# Altium footprint library MXC6655XA.PcbLib: 3 footprints
Each footprint in its own frame and in the unit in brackets; x right, y up, seen from the top. Pads: shape width x height; smd on the part's side, far side on the other; paste and mask are expansions set on the pad; w line width, h text height; cw(c..) or ccw(c..) is an arc to the next point about the centre after c.
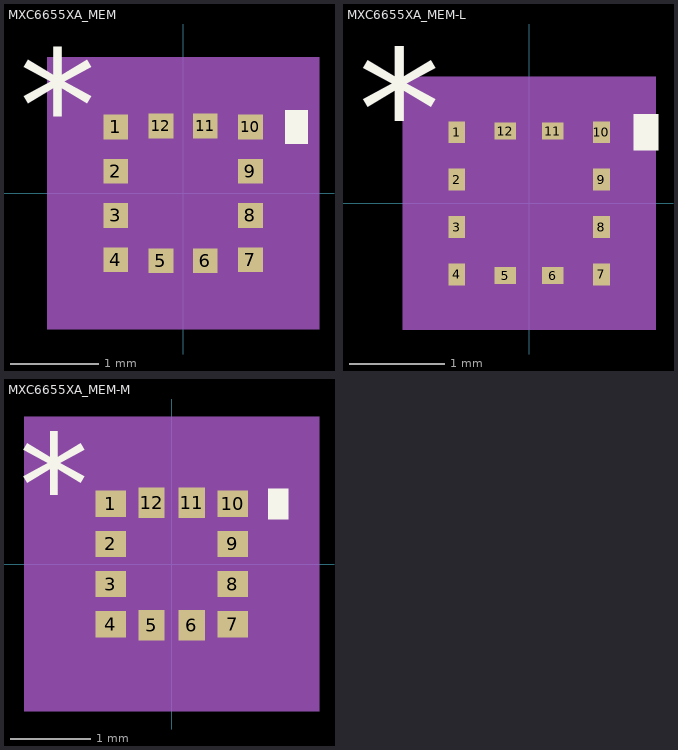
[diagram p0: the footprints below, top view; thin cyan lines are the x and y axes]

## MXC6655XA_MEM [mil]
pads (12):
  rect 11x11 smd paste+0 mask+0: 1(-30,29.53) 2(-30,9.84) 3(-30,-9.84) 4(-30,-29.53) 5(-9.84,-30) 6(9.84,-30) 7(30,-29.53) 8(30,-9.84) 9(30,9.84) 10(30,29.53) 11(9.84,30) 12(-9.84,30)
Top Overlay:
  region: 45.5,37.03 55.5,37.03 55.5,22.03 45.5,22.03
  text "*" at -73,14.37 h50
Mechanical 5:
  region: 60.5,-60.5 -60.5,-60.5 -60.5,60.5 60.5,60.5
Mechanical 13:
  lines w1: -39.5,-10.5 10.5,39.5 ; -39.5,-39.5 39.5,-39.5 ; -39.5,-39.5 -39.5,39.5 ; -39.5,-39.5 -39.5,-39.5 ; -39.5,39.5 39.5,39.5 ; -39.5,39.5 -39.5,39.5 ; 39.5,-39.5 39.5,-39.5 ; 39.5,-39.5 39.5,39.5 ; 39.5,39.5 39.5,39.5 ; -39.5,-35.03 -39.5,-24.03 -35.5,-24.03 -35.5,-35.03 -39.5,-35.03 ; -39.5,-15.34 -39.5,-4.34 -35.5,-4.34 -35.5,-15.34 -39.5,-15.34 ; -39.5,4.34 -39.5,15.34 -35.5,15.34 -35.5,4.34 -39.5,4.34 ; -39.5,24.03 -39.5,35.03 -35.5,35.03 -35.5,24.03 -39.5,24.03 ; -15.34,-39.5 -4.34,-39.5 -4.34,-35.5 -15.34,-35.5 -15.34,-39.5 ; -15.34,35.5 -4.34,35.5 -4.34,39.5 -15.34,39.5 -15.34,35.5 ; 4.34,-39.5 15.34,-39.5 15.34,-35.5 4.34,-35.5 4.34,-39.5 ; 4.34,35.5 15.34,35.5 15.34,39.5 4.34,39.5 4.34,35.5 ; 35.5,-35.03 39.5,-35.03 39.5,-24.03 35.5,-24.03 35.5,-35.03 ; 35.5,-15.34 39.5,-15.34 39.5,-4.34 35.5,-4.34 35.5,-15.34 ; 35.5,4.34 39.5,4.34 39.5,15.34 35.5,15.34 35.5,4.34 ; 35.5,24.03 39.5,24.03 39.5,35.03 35.5,35.03 35.5,24.03
  text "*" at -37,14.37 h50
Mechanical 15:
  region: -25.34,-49.5 -49.5,-49.5 -49.5,-45.03 -49.5,45.03 -49.5,49.5 -25.34,49.5 25.34,49.5 49.5,49.5 49.5,45.03 49.5,-45.03 49.5,-49.5 25.34,-49.5
  lines w6: -49.5,-45.03 -49.5,-49.5 -25.34,-49.5 ; -49.5,-45.03 -49.5,-45.03 ; -49.5,-45.03 -49.5,45.03 ; -49.5,45.03 -49.5,45.03 ; -49.5,45.03 -49.5,49.5 -25.34,49.5 ; -25.34,-49.5 25.34,-49.5 ; -25.34,-49.5 -25.34,-49.5 ; -25.34,49.5 -25.34,49.5 ; -25.34,49.5 25.34,49.5 ; 25.34,-49.5 49.5,-49.5 49.5,-45.03 ; 25.34,-49.5 25.34,-49.5 ; 25.34,49.5 25.34,49.5 ; 25.34,49.5 49.5,49.5 49.5,45.03 ; 49.5,-45.03 49.5,45.03 ; 49.5,-45.03 49.5,-45.03 ; 49.5,45.03 49.5,45.03
3D body "MXC6655XA_MEM.step": height 39.09, standoff 0, extent -39.49,-39.49 39.49,39.49

## MXC6655XA_MEM-L [mil]
pads (12):
  rect 7x9 smd paste+0 mask+0: 1(-30,29.53) 2(-30,9.84) 3(-30,-9.84) 4(-30,-29.53) 7(30,-29.53) 8(30,-9.84) 9(30,9.84) 10(30,29.53)
  rect 9x7 smd paste+0 mask+0: 5(-9.84,-30) 6(9.84,-30) 11(9.84,30) 12(-9.84,30)
Top Overlay:
  region: 43.5,37.03 53.5,37.03 53.5,22.03 43.5,22.03
  text "*" at -71,14.37 h50
Mechanical 5:
  region: 52.5,-52.5 -52.5,-52.5 -52.5,52.5 52.5,52.5
Mechanical 13:
  lines w1: -39.5,-10.5 10.5,39.5 ; -39.5,-39.5 39.5,-39.5 ; -39.5,-39.5 -39.5,39.5 ; -39.5,-39.5 -39.5,-39.5 ; -39.5,39.5 39.5,39.5 ; -39.5,39.5 -39.5,39.5 ; 39.5,-39.5 39.5,-39.5 ; 39.5,-39.5 39.5,39.5 ; 39.5,39.5 39.5,39.5 ; -39.5,-35.03 -39.5,-24.03 -35.5,-24.03 -35.5,-35.03 -39.5,-35.03 ; -39.5,-15.34 -39.5,-4.34 -35.5,-4.34 -35.5,-15.34 -39.5,-15.34 ; -39.5,4.34 -39.5,15.34 -35.5,15.34 -35.5,4.34 -39.5,4.34 ; -39.5,24.03 -39.5,35.03 -35.5,35.03 -35.5,24.03 -39.5,24.03 ; -15.34,-39.5 -4.34,-39.5 -4.34,-35.5 -15.34,-35.5 -15.34,-39.5 ; -15.34,35.5 -4.34,35.5 -4.34,39.5 -15.34,39.5 -15.34,35.5 ; 4.34,-39.5 15.34,-39.5 15.34,-35.5 4.34,-35.5 4.34,-39.5 ; 4.34,35.5 15.34,35.5 15.34,39.5 4.34,39.5 4.34,35.5 ; 35.5,-35.03 39.5,-35.03 39.5,-24.03 35.5,-24.03 35.5,-35.03 ; 35.5,-15.34 39.5,-15.34 39.5,-4.34 35.5,-4.34 35.5,-15.34 ; 35.5,4.34 39.5,4.34 39.5,15.34 35.5,15.34 35.5,4.34 ; 35.5,24.03 39.5,24.03 39.5,35.03 35.5,35.03 35.5,24.03
  text "*" at -39,14.37 h50
Mechanical 15:
  region: -18.34,-43.5 -43.5,-43.5 -43.5,-38.03 -43.5,38.03 -43.5,43.5 -18.34,43.5 18.34,43.5 43.5,43.5 43.5,38.03 43.5,-38.03 43.5,-43.5 18.34,-43.5
  lines w6: -43.5,-38.03 -43.5,-43.5 -18.34,-43.5 ; -43.5,-38.03 -43.5,-38.03 ; -43.5,-38.03 -43.5,38.03 ; -43.5,38.03 -43.5,38.03 ; -43.5,38.03 -43.5,43.5 -18.34,43.5 ; -18.34,-43.5 18.34,-43.5 ; -18.34,-43.5 -18.34,-43.5 ; -18.34,43.5 -18.34,43.5 ; -18.34,43.5 18.34,43.5 ; 18.34,-43.5 43.5,-43.5 43.5,-38.03 ; 18.34,-43.5 18.34,-43.5 ; 18.34,43.5 18.34,43.5 ; 18.34,43.5 43.5,43.5 43.5,38.03 ; 43.5,-38.03 43.5,38.03 ; 43.5,-38.03 43.5,-38.03 ; 43.5,38.03 43.5,38.03
3D body "MXC6655XA_MEM.step": height 39.09, standoff 0, extent -39.49,-39.49 39.49,39.49

## MXC6655XA_MEM-M [mil]
pads (12):
  rect 15x13 smd paste+0 mask+0: 1(-30,29.53) 2(-30,9.84) 3(-30,-9.84) 4(-30,-29.53) 7(30,-29.53) 8(30,-9.84) 9(30,9.84) 10(30,29.53)
  rect 13x15 smd paste+0 mask+0: 5(-9.84,-30) 6(9.84,-30) 11(9.84,30) 12(-9.84,30)
Top Overlay:
  region: 47.5,37.03 57.5,37.03 57.5,22.03 47.5,22.03
  text "*" at -75,14.37 h50
Mechanical 5:
  region: 72.5,-72.5 -72.5,-72.5 -72.5,72.5 72.5,72.5
Mechanical 13:
  lines w1: -39.5,-10.5 10.5,39.5 ; -39.5,-39.5 39.5,-39.5 ; -39.5,-39.5 -39.5,39.5 ; -39.5,-39.5 -39.5,-39.5 ; -39.5,39.5 39.5,39.5 ; -39.5,39.5 -39.5,39.5 ; 39.5,-39.5 39.5,-39.5 ; 39.5,-39.5 39.5,39.5 ; 39.5,39.5 39.5,39.5 ; -39.5,-35.03 -39.5,-24.03 -35.5,-24.03 -35.5,-35.03 -39.5,-35.03 ; -39.5,-15.34 -39.5,-4.34 -35.5,-4.34 -35.5,-15.34 -39.5,-15.34 ; -39.5,4.34 -39.5,15.34 -35.5,15.34 -35.5,4.34 -39.5,4.34 ; -39.5,24.03 -39.5,35.03 -35.5,35.03 -35.5,24.03 -39.5,24.03 ; -15.34,-39.5 -4.34,-39.5 -4.34,-35.5 -15.34,-35.5 -15.34,-39.5 ; -15.34,35.5 -4.34,35.5 -4.34,39.5 -15.34,39.5 -15.34,35.5 ; 4.34,-39.5 15.34,-39.5 15.34,-35.5 4.34,-35.5 4.34,-39.5 ; 4.34,35.5 15.34,35.5 15.34,39.5 4.34,39.5 4.34,35.5 ; 35.5,-35.03 39.5,-35.03 39.5,-24.03 35.5,-24.03 35.5,-35.03 ; 35.5,-15.34 39.5,-15.34 39.5,-4.34 35.5,-4.34 35.5,-15.34 ; 35.5,4.34 39.5,4.34 39.5,15.34 35.5,15.34 35.5,4.34 ; 35.5,24.03 39.5,24.03 39.5,35.03 35.5,35.03 35.5,24.03
  text "*" at -35,14.37 h50
Mechanical 15:
  region: -36.34,-59.5 -59.5,-59.5 -59.5,-56.03 -59.5,56.03 -59.5,59.5 -36.34,59.5 36.34,59.5 59.5,59.5 59.5,56.03 59.5,-56.03 59.5,-59.5 36.34,-59.5
  lines w6: -59.5,-56.03 -59.5,-59.5 -36.34,-59.5 ; -59.5,-56.03 -59.5,-56.03 ; -59.5,-56.03 -59.5,56.03 ; -59.5,56.03 -59.5,56.03 ; -59.5,56.03 -59.5,59.5 -36.34,59.5 ; -36.34,-59.5 36.34,-59.5 ; -36.34,-59.5 -36.34,-59.5 ; -36.34,59.5 -36.34,59.5 ; -36.34,59.5 36.34,59.5 ; 36.34,-59.5 59.5,-59.5 59.5,-56.03 ; 36.34,-59.5 36.34,-59.5 ; 36.34,59.5 36.34,59.5 ; 36.34,59.5 59.5,59.5 59.5,56.03 ; 59.5,-56.03 59.5,56.03 ; 59.5,-56.03 59.5,-56.03 ; 59.5,56.03 59.5,56.03
3D body "MXC6655XA_MEM.step": height 39.09, standoff 0, extent -39.49,-39.49 39.49,39.49